# Altium schematic symbol library PCBStudy(LEDLight).SCHLIB: 4 symbols
Pins are listed as number, name and electrical type; pins without a type are passive.

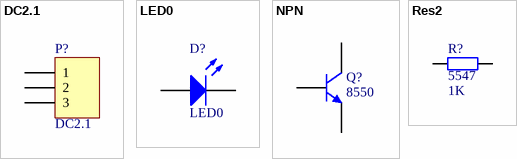
[diagram p0: symbols DC2.1 to Res2]

## DC2.1
designator P?
LatestRevisionDate: 17-Jul-2002; LatestRevisionNote: Re-released for DXP Platform.; Publisher: Altium Limited
footprint DC2.1
signal-integrity model Connector
pins: 1, 2, 3

## LED0
designator D?
Typical INFRARED GaAs LED; Published: 8-Jun-2000; LatestRevisionDate: 08-Jul-2005; LatestRevisionNote: Mech Layer 1 removed.; PackageReference: LED-0; Publisher: Altium Limited
footprint 2012[0805] (Chip Resistor; Body 2.0 x 1.3 mm (LxW typ))
simulation model LED0 (Diode)
pins: 1 A, 2 K

## NPN
designator Q?, comment 8550
NPN Bipolar Transistor; Published: 8-Jun-2000; LatestRevisionDate: 17-Jul-2002; LatestRevisionNote: Re-released for DXP Platform.; PackageReference: TO-226; Publisher: Altium Limited; Code_JEDEC: TO-226-AA
footprint SOT-23B (SOT-23; 3 Leads; Body 3.0 x 2.6 mm, inc. leads (LxW max))
simulation model NPN
signal-integrity model NPN
pins: 1 C, 2 B, 3 E

## Res2
designator R?, comment 5547  value 1K
Resistor; Published: 8-Jun-2000; LatestRevisionDate: 17-Jul-2002; LatestRevisionNote: Re-released for DXP Platform.; PackageReference: AXIAL-0.4; Publisher: Altium Limited
footprint R38 (Crystal, Thru-Hole; 2 Leads; Body 3.1 x 8.2 mm (Dia.xH))
simulation model RESISTOR (Resistor)
signal-integrity model Res
pins: 1, 2